# Altium footprint library LED_D500_W254.PcbLib: 1 footprints
Each footprint in its own frame and in the unit in brackets; x right, y up, seen from the top. Pads: shape width x height; smd on the part's side, far side on the other; paste and mask are expansions set on the pad; w line width, h text height; cw(c..) or ccw(c..) is an arc to the next point about the centre after c.
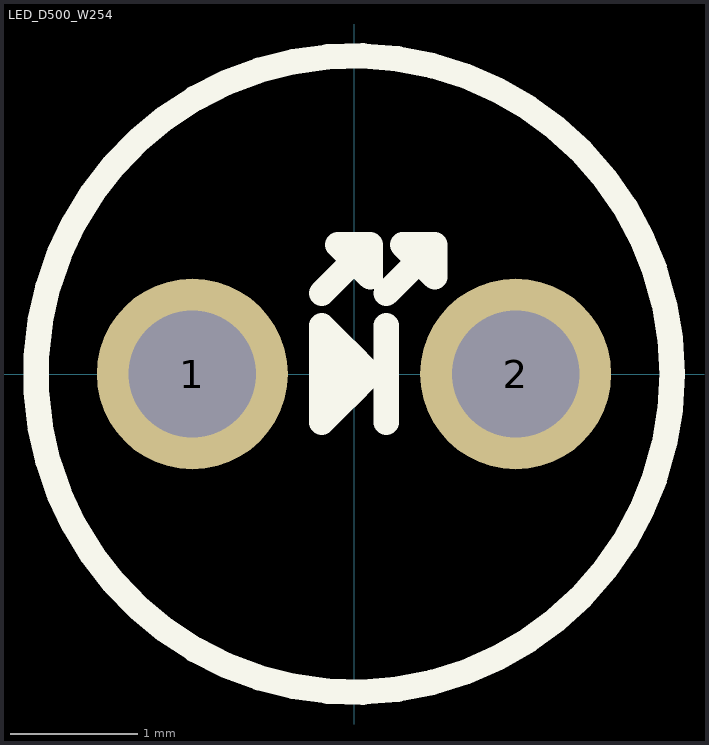
[diagram p0: the footprint, top view; thin cyan lines are the x and y axes]

## LED_D500_W254 [mm] "LED φ5.0 W 2.54 H 8.6"
height 8.6
pads (2):
  round 1.5 hole 1: 1(-1.27,0) 2(1.27,0)
Top Overlay:
  circle w0.2: c0,0 r2.5
  lines w0.2: -0.254,0 0.127,0 ; -0.254,0.635 0.127,1.016 ; 0.254,-0.381 0.254,0.381 ; 0.254,0.635 0.635,1.016 ; 0.127,0 -0.064,-0.191 -0.064,0.191 0.127,0 ; 0.127,0 -0.254,-0.381 -0.254,0.381 0.127,0 ; 0.127,1.016 0.127,0.762 -0.127,1.016 0.127,1.016 ; 0.635,1.016 0.381,1.016 0.635,0.762 0.635,1.016